# Altium footprint library oldman.PcbLib: 6 footprints
Each footprint in its own frame and in the unit in brackets; x right, y up, seen from the top. Pads: shape width x height; smd on the part's side, far side on the other; paste and mask are expansions set on the pad; w line width, h text height; cw(c..) or ccw(c..) is an arc to the next point about the centre after c.
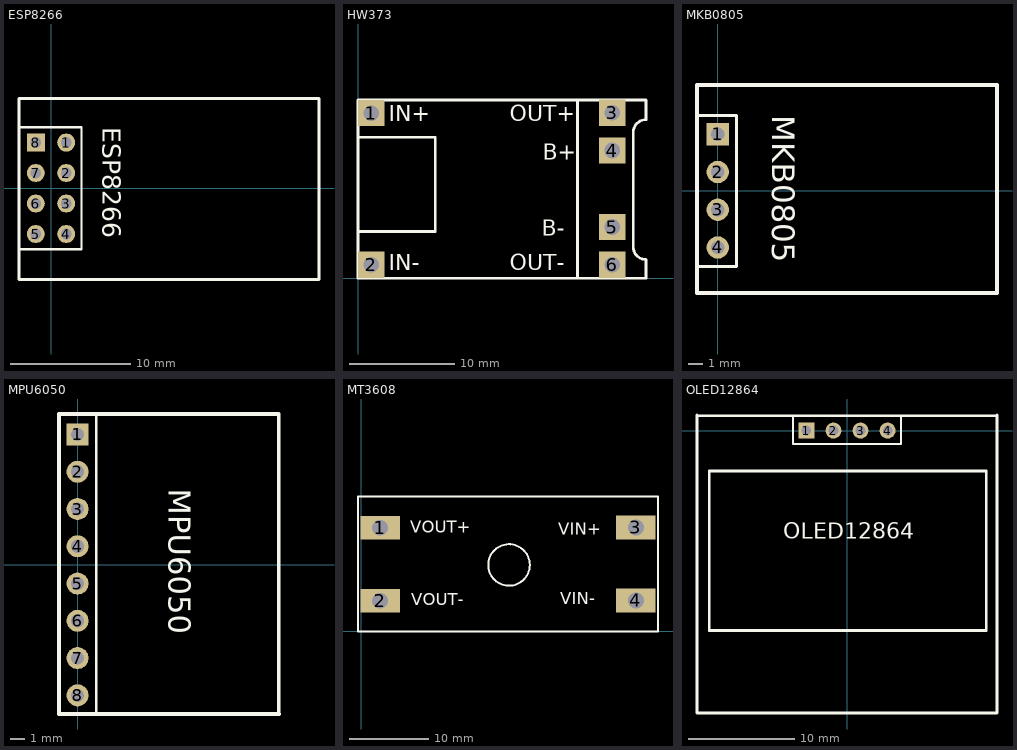
[diagram p0: the footprints below, top view; thin cyan lines are the x and y axes]

## ESP8266 [mm]
pads (8):
  round 1.5 hole 0.9: 1(1.27,3.81) 2(1.27,1.27) 3(1.27,-1.27) 4(1.27,-3.81) 5(-1.27,-3.81) 6(-1.27,-1.27) 7(-1.27,1.27)
  rect 1.5x1.5 hole 0.9: 8(-1.27,3.81)
Top Overlay:
  lines w0.2: -2.54,-5.08 2.54,-5.08 2.54,5.08 -2.54,5.08
  lines w0.254: -2.667,-7.62 -2.667,0 -2.667,7.5 22.333,7.5 22.333,-7.62 -2.667,-7.62
  text "ESP8266" at 4.318,5.08 h1.52

## HW373 [mm] "升压板模块"
pads (6):
  rect 2.5x2.5 hole 1.5: 1(1.27,15.748) 2(1.27,1.27) 3(24.27,15.778) 4(24.27,12.178) 5(24.27,4.87) 6(24.27,1.27)
Top Overlay:
  lines w0.254: 0,-0.018 27.5,-0.018 27.5,1.778 cw(c27.466,2.955) 26.289,2.921 26.289,13.97 cw(c27.466,13.936) 27.5,15.113 27.5,17 0,17 0,0 ; 0,4.445 7.366,4.445 7.366,13.445 0.017,13.445 ; 20.955,0.109 20.955,17
  text "OUT-" at 14.478,0.762 h1.52
  text "B-" at 17.526,4.064 h1.52
  text "B+" at 17.653,11.303 h1.52
  text "OUT+" at 14.478,14.986 h1.52
  text "IN-" at 2.921,0.762 h1.52
  text "IN+" at 2.921,14.986 h1.52

## MKB0805 [mm]
pads (4):
  rect 1.5x1.5 hole 0.9: 1(0,3.81)
  round 1.5 hole 0.9: 2(0,1.27) 3(0,-1.27) 4(0,-3.81)
Top Overlay:
  lines w0.2: -1.27,-5.08 1.27,-5.08 1.27,5.08 -1.27,5.08
  lines w0.254: -1.397,7.127 -1.397,0.127 -1.397,-6.873 18.73,-6.873 ; -1.331,7.127 18.796,7.127 18.796,0.127 18.796,-6.873
  text "MKB0805" at 3.683,5.08 h1.52

## MPU6050 [mm]
pads (8):
  rect 1.5x1.5 hole 0.9: 1(0,8.89)
  round 1.5 hole 0.9: 2(0,6.35) 3(0,3.81) 4(0,1.27) 5(0,-1.27) 6(0,-3.81) 7(0,-6.35) 8(0,-8.89)
Top Overlay:
  lines w0.2: 1.27,-10.16 1.27,10.16
  lines w0.254: 13.716,-10.146 13.716,10.287 -1.27,10.287 -1.27,-10.16 13.73,-10.16
  text "MPU6050" at 6.223,5.207 h1.52

## MT3608 [mm] "升压板模块封装"
pads (4):
  rect 5x3 hole 2: 1(2.413,13.081) 2(2.413,3.857) 3(34.671,13.121) 4(34.671,3.897)
Top Overlay:
  circle w0.254: c18.669,8.382 r2.618
  lines w0.254: -0.381,0 -0.381,17 37.465,17 37.465,0 -0.381,0
  text "VOUT+" at 6.223,12.446 h1.52
  text "VOUT-" at 6.35,3.302 h1.52
  text "VIN+" at 24.892,12.192 h1.52
  text "VIN-" at 25.146,3.429 h1.52

## OLED12864 [mm]
pads (4):
  rect 1.5x1.5 hole 0.9: 1(-3.81,0)
  round 1.5 hole 0.9: 2(-1.27,0) 3(1.27,0) 4(3.81,0)
Top Overlay:
  lines w0.2: -5.08,1.27 -5.08,-1.27 5.08,-1.27 5.08,1.27
  lines w0.254: -14.097,-26.543 -14.097,1.457 ; -14.097,1.397 13.903,1.397 ; -14.03,-26.543 13.97,-26.543 ; -12.954,-18.81 -12.954,-3.81 13.081,-3.81 ; -12.954,-18.796 13.081,-18.796 13.081,-3.796 ; 14.097,-26.543 14.097,1.457
  text "OLED12864" at -5.969,-10.16 h1.52